# EAGLE library part *160 (library digital)
74xx160: Decade counter With asynchronous clear
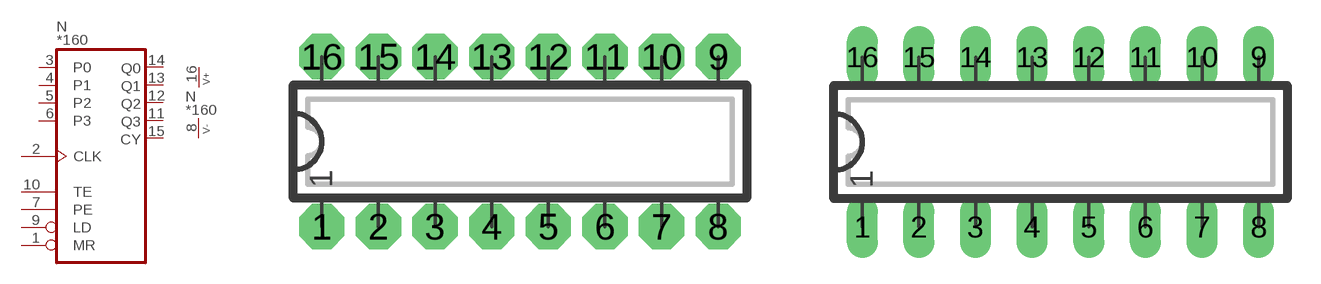
[diagram p30: symbol with the pads of DIP16N; footprints DIP16N, DIP16L]

Designator prefix N; gates  =COUNT_4 P=V+-

## 74160N, 74ALS160N, 74AS160N, 74C160N, 74HC160N, 74LS160N, 74S160N  [DIP16N]
1   :MR  in
2   :CLK  in
3   :P0  in
4   :P1  in
5   :P2  in
6   :P3  in
7   :PE  in
8  P:V-  pwr
9   :LD  in
10   :TE  in
11   :Q3  out
12   :Q2  out
13   :Q1  out
14   :Q0  out
15   :CY  out
16  P:V+  pwr

## 74160, 74ALS160, 74AS160, 74C160, 74HC160, 74LS160, 74S160  [DIP16L]
Pads as for DIP16N

## 74160L, 74ALS160L, 74AS160L, 74C160L, 74HC160L, 74LS160L, 74S160L  [DIP16L]
Pads as for DIP16N

## 74160R, 74ALS160R, 74AS160R, 74C160R, 74HC160R, 74LS160R, 74S160R  [DIP16R]
Pads as for DIP16N

## 74HC160S, 74HCT160S  [SO16]
Pads as for DIP16N

## Footprint DIP16N (pad centres in mm)
DIP-16 Standard IC package, 16 pins
drill 0.813 pad 2.032 octagon: 1 0,0; 2 2.54,0; 3 5.08,0; 4 7.62,0; 5 10.16,0; 6 12.7,0; 7 15.24,0; 8 17.78,0; 9 17.78,7.62; 10 15.24,7.62; 11 12.7,7.62; 12 10.16,7.62; 13 7.62,7.62; 14 5.08,7.62; 15 2.54,7.62; 16 0,7.62

## Footprint DIP16L (pad centres in mm)
DIP-16, long pads Standard IC package, 16 pins
drill 0.813 pad 1.397 long: 1 0,0; 2 2.54,0; 3 5.08,0; 4 7.62,0; 5 10.16,0; 6 12.7,0; 7 15.24,0; 8 17.78,0; 9 17.78,7.62; 10 15.24,7.62; 11 12.7,7.62; 12 10.16,7.62; 13 7.62,7.62; 14 5.08,7.62; 15 2.54,7.62; 16 0,7.62

## Footprint DIP16R (pad centres in mm)
DIP-16, reduced pads Standard IC package, 16 pins
drill 0.813 pad 1.397 square: 1 0,0; 2 2.54,0; 3 5.08,0; 4 7.62,0; 5 10.16,0; 6 12.7,0; 7 15.24,0; 8 17.78,0; 9 17.78,7.62; 10 15.24,7.62; 11 12.7,7.62; 12 10.16,7.62; 13 7.62,7.62; 14 5.08,7.62; 15 2.54,7.62; 16 0,7.62

## Footprint SO16 (pad centres in mm)
SO-16, SMD SOIC IC package, 16 pins
smd 0.635 x 1.778: 1 -4.445,-2.857; 2 -3.175,-2.857; 3 -1.905,-2.857; 4 -0.635,-2.857; 5 0.635,-2.857; 6 1.905,-2.857; 7 3.175,-2.857; 8 4.445,-2.857; 9 4.445,2.857; 10 3.175,2.857; 11 1.905,2.857; 12 0.635,2.857; 13 -0.635,2.857; 14 -1.905,2.857; 15 -3.175,2.857; 16 -4.445,2.857